# Altium schematic symbol library Y 压敏电阻.SchLib: 1 symbol
Pins are listed as number, name and electrical type; pins without a type are passive.

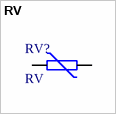
[diagram p0: symbol RV]

## RV
designator RV?
压敏电阻
pins: 1, 2